# Altium schematic symbol library KLMBG2JETD-B041003.SchLib: 1 symbol
Pins are listed as number, name and electrical type; pins without a type are passive.

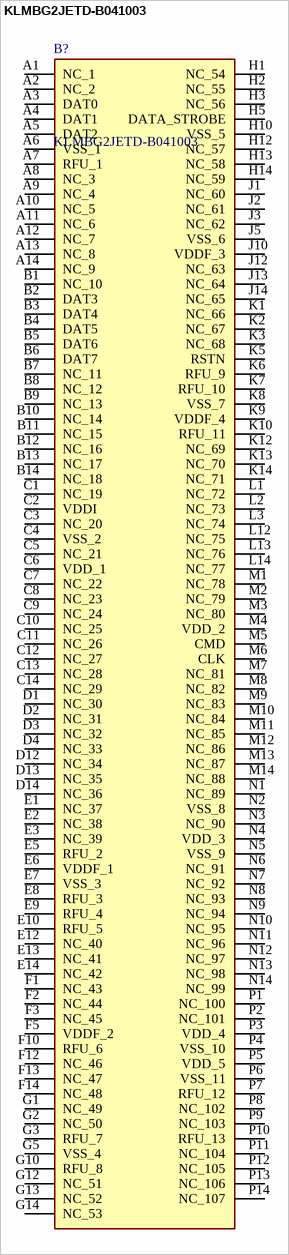
[diagram p0: symbol KLMBG2JETD-B041003]

## KLMBG2JETD-B041003
designator B?
embedded MultiMediaCard Ver. 5.1 compatible.  SAMSUNG eMMC supports features of eMMC5.1 which are defined in JEDEC Standard  - Supported Features : Packed command, Cache, Discard, Sanitize, Power Off Notification, Data Tag,  Partition types, Context ID, Real Time Clock, Dynamic Device Capacity, Command Queuing, Enhanced Strobe Mode,  Secure Write Protection, HS200, HS400, Field Firmware Update.   - Non-supported Features : Large Sector Size (4KB)   Full backward compatibility with previous Multi; Geometry.Height: 0.8mm; Manufacturer_Name: SAMSUNG; Manufacturer_Part_Number: KLMBG2JETD-B041003; Mouser Part Number: *; Mouser Price/Stock: *; Arrow Part Number: KLMBG2JETD-B041003; Arrow Price/Stock: https://www.arrow.com/en/products/klmbg2jetd-b041003/samsung-electronics?utm_currency=USD&region=nac; Datasheet Link: https://www.lcsc.com/datasheet/lcsc_datasheet_2202131900_Samsung-KLMBG2JETD-B041_C2803245.pdf
footprint BGA153C50P14X14_1150X1300X80
pins: A1 NC_1, A2 NC_2, A3 DAT0, A4 DAT1, A5 DAT2, A6 VSS_1, A7 RFU_1, A8 NC_3, A9 NC_4, A10 NC_5, A11 NC_6, A12 NC_7, A13 NC_8, A14 NC_9, B1 NC_10, B2 DAT3, B3 DAT4, B4 DAT5, B5 DAT6, B6 DAT7, B7 NC_11, B8 NC_12, B9 NC_13, B10 NC_14, B11 NC_15, B12 NC_16, B13 NC_17, B14 NC_18, C1 NC_19, C2 VDDI, C3 NC_20, C4 VSS_2, C5 NC_21, C6 VDD_1, C7 NC_22, C8 NC_23, C9 NC_24, C10 NC_25, C11 NC_26, C12 NC_27, C13 NC_28, C14 NC_29, D1 NC_30, D2 NC_31, D3 NC_32, D4 NC_33, D12 NC_34, D13 NC_35, D14 NC_36, E1 NC_37, E2 NC_38, E3 NC_39, E5 RFU_2, E6 VDDF_1, E7 VSS_3, E8 RFU_3, E9 RFU_4, E10 RFU_5, E12 NC_40, E13 NC_41, E14 NC_42, F1 NC_43, F2 NC_44, F3 NC_45, F5 VDDF_2, F10 RFU_6, F12 NC_46, F13 NC_47, F14 NC_48, G1 NC_49, G2 NC_50, G3 RFU_7, G5 VSS_4, G10 RFU_8, G12 NC_51, G13 NC_52, G14 NC_53, H1 NC_54, H2 NC_55, H3 NC_56, H5 DATA_STROBE, H10 VSS_5, H12 NC_57, H13 NC_58, H14 NC_59, J1 NC_60, J2 NC_61, J3 NC_62, J5 VSS_6, J10 VDDF_3, J12 NC_63, J13 NC_64, J14 NC_65, K1 NC_66, K2 NC_67, K3 NC_68, K5 RSTN, K6 RFU_9, K7 RFU_10, K8 VSS_7, K9 VDDF_4, K10 RFU_11, K12 NC_69, K13 NC_70, K14 NC_71, L1 NC_72, L2 NC_73, L3 NC_74, L12 NC_75, L13 NC_76, L14 NC_77, M1 NC_78, M2 NC_79, M3 NC_80, M4 VDD_2, M5 CMD, M6 CLK, M7 NC_81, M8 NC_82, M9 NC_83, M10 NC_84, M11 NC_85, M12 NC_86, M13 NC_87, M14 NC_88, N1 NC_89, N2 VSS_8, N3 NC_90, N4 VDD_3, N5 VSS_9, N6 NC_91, N7 NC_92, N8 NC_93, N9 NC_94, N10 NC_95, N11 NC_96, N12 NC_97, N13 NC_98, N14 NC_99, P1 NC_100, P2 NC_101, P3 VDD_4, P4 VSS_10, P5 VDD_5, P6 VSS_11, P7 RFU_12, P8 NC_102, P9 NC_103, P10 RFU_13, P11 NC_104, P12 NC_105, P13 NC_106, P14 NC_107